# Altium schematic symbol library PassiveSMT.schlib: 5 symbols
Pins are listed as number, name and electrical type; pins without a type are passive.

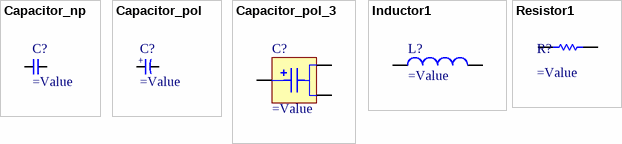
[diagram p0: symbols Capacitor_np to Resistor1]

## Capacitor_np
designator C?
Non-polarised capacitor
pins: 1, 2

## Capacitor_pol
designator C?
Polarised capacitor
pins: 1, 2
text: +

## Capacitor_pol_3
designator C?
polarized triple lead capacitor
pins: 1, 2, 3

## Inductor1
designator L?
Inductor; Value: =Value
pins: 1, 2

## Resistor1
designator R?
Resistor; Value: =Value
pins: 1, 2
1 alternate drawing of the same symbol